# Altium footprint library Networks SMD.PcbLib: 25 footprints (part 2 of 2)
Each footprint in its own frame and in the unit in brackets; x right, y up, seen from the top. Pads: shape width x height; smd on the part's side, far side on the other; paste and mask are expansions set on the pad; w line width, h text height; cw(c..) or ccw(c..) is an arc to the next point about the centre after c.
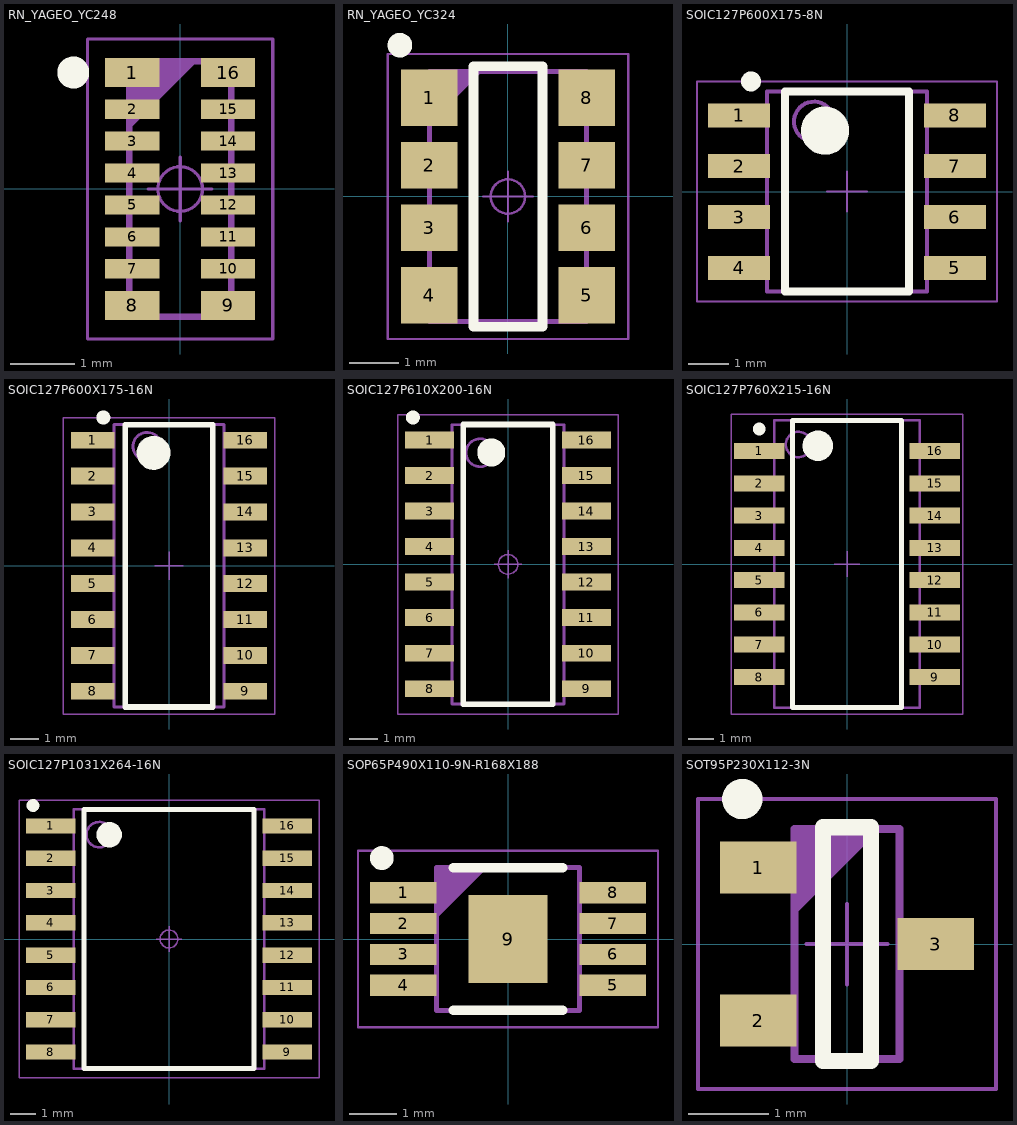
[diagram p1: the footprints below, top view; thin cyan lines are the x and y axes]

## RN_YAGEO_YC248 [mm] "Resistor, Chip Array, 0.50mm pitch; 16 pin, 1.60mm W X 4mm L X 0.55mm H, YC248 Serie"
height 0.55
pads (16):
  rect 0.85x0.45 smd: 1(-0.75,1.825) 8(-0.75,-1.825) 9(0.75,-1.825) 16(0.75,1.825)
  rect 0.85x0.3 smd: 2(-0.75,1.25) 3(-0.75,0.75) 4(-0.75,0.25) 5(-0.75,-0.25) 6(-0.75,-0.75) 7(-0.75,-1.25) 10(0.75,-1.25) 11(0.75,-0.75) 12(0.75,-0.25) 13(0.75,0.25) 14(0.75,0.75) 15(0.75,1.25)
Top Overlay:
  circle w0.25: c-1.675,1.825 r0.125
Mechanical 14:
  lines w0.1: -0.8,-2 -0.8,2 0.8,2 0.8,-2 -0.8,-2 ; -0.8,1 0.2,2 -0.8,1 ; -0.8,1.1 0.1,2 -0.8,1.1 ; -0.8,1.2 0,2 -0.8,1.2 ; -0.8,1.3 -0.1,2 -0.8,1.3 ; -0.8,1.4 -0.2,2 -0.8,1.4 ; -0.8,1.5 -0.3,2 -0.8,1.5 ; -0.8,1.6 -0.4,2 -0.8,1.6 ; -0.8,1.7 -0.5,2 -0.8,1.7 ; -0.8,1.8 -0.6,2 -0.8,1.8 ; -0.8,1.9 -0.7,2 -0.8,1.9
Mechanical 15:
  circle w0.05: c0,0 r0.35
  lines w0.05: -0.5,0 0.5,0 ; 0,-0.5 0,0.5 ; -1.45,-2.35 -1.45,2.35 1.45,2.35 1.45,-2.35 -1.45,-2.35
3D body "RN_YAGEO_YC248.stp": height 0.45, standoff 0, extent -0.8,-2 0.8,2

## RN_YAGEO_YC324 [mm] "Resistor, Chip Array, Convex S Version, 1.27mm Pitch; 8 Pin, 3.20mm W X 5.08mm L X 0.70mm H, Type YC324, IPC Medium Density"
height 0.7
pads (8):
  rect 1.15x1.15 smd: 1(-1.6,2.005) 4(-1.6,-2.005) 5(1.6,-2.005) 8(1.6,2.005)
  rect 1.15x0.95 smd: 2(-1.6,0.635) 3(-1.6,-0.635) 6(1.6,-0.635) 7(1.6,0.635)
Top Overlay:
  circle w0.25: c-2.2,3.08 r0.125
  lines w0.2: -0.7,-2.65 0.7,-2.65 0.7,2.65 -0.7,2.65 -0.7,-2.65
Mechanical 14:
  lines w0.1: -1.6,-2.54 1.6,-2.54 1.6,2.54 -1.6,2.54 -1.6,-2.54 ; -1.6,1.54 -0.6,2.54 -1.6,1.54 ; -1.6,1.64 -0.7,2.54 -1.6,1.64 ; -1.6,1.74 -0.8,2.54 -1.6,1.74 ; -1.6,1.84 -0.9,2.54 -1.6,1.84 ; -1.6,1.94 -1,2.54 -1.6,1.94 ; -1.6,2.04 -1.1,2.54 -1.6,2.04 ; -1.6,2.14 -1.2,2.54 -1.6,2.14 ; -1.6,2.24 -1.3,2.54 -1.6,2.24 ; -1.6,2.34 -1.4,2.54 -1.6,2.34 ; -1.6,2.44 -1.5,2.54 -1.6,2.44
Mechanical 15:
  circle w0.05: c0,0 r0.35
  lines w0.05: -0.5,0 0.5,0 ; 0,-0.5 0,0.5 ; -2.45,-2.9 2.45,-2.9 2.45,2.9 -2.45,2.9 -2.45,-2.9
3D body "RN_YAGEO_YC324.stp": height 0.7, standoff 0, extent -1.6,-2.54 1.6,2.54

## SOIC127P600X175-8N [mm] "SOIC 8, Pitch 1.27mm - Body 4x5mm, IPC Medium Density"
height 1.75
pads (8):
  rect 1.55x0.6 smd: 1(-2.7,1.905) 2(-2.7,0.635) 3(-2.7,-0.635) 4(-2.7,-1.905) 5(2.7,-1.905) 6(2.7,-0.635) 7(2.7,0.635) 8(2.7,1.905)
Top Overlay:
  circle w0.25: c-2.4,2.755 r0.125
  circle w0.6: c-0.55,1.525 r0.3
  lines w0.2: -1.55,-2.5 -1.55,2.5 1.55,2.5 1.55,-2.5 -1.55,-2.5
Mechanical 14:
  circle w0.1: c-0.825,1.75 r0.5
  lines w0.1: -2,-2.5 -2,2.5 2,2.5 2,-2.5 -2,-2.5
Mechanical 15:
  lines w0.05: -0.5,0 0.5,0 ; 0,-0.5 0,0.5 ; -3.75,-2.75 -3.75,2.75 3.75,2.75 3.75,-2.75 -3.75,-2.75
3D body "SOIC127P600X175-8N.stp": height 1.75, standoff 0, extent -3.1,-2.5 3.1,2.5

## SOIC127P600X175-16N [mm] "SOIC 16, Pitch 1.27mm - Body 4x10mm, IPC Medium Density"
height 1.75
pads (16):
  rect 1.55x0.6 smd: 1(-2.7,4.445) 2(-2.7,3.175) 3(-2.7,1.905) 4(-2.7,0.635) 5(-2.7,-0.635) 6(-2.7,-1.905) 7(-2.7,-3.175) 8(-2.7,-4.445) 9(2.7,-4.445) 10(2.7,-3.175) 11(2.7,-1.905) 12(2.7,-0.635) 13(2.7,0.635) 14(2.7,1.905) 15(2.7,3.175) 16(2.7,4.445)
Top Overlay:
  circle w0.6: c-0.55,4 r0.3
  circle w0.25: c-2.325,5.25 r0.125
  lines w0.2: -1.55,-5 1.55,-5 1.55,5 -1.55,5 -1.55,-5
Mechanical 14:
  circle w0.1: c-0.775,4.225 r0.5
  lines w0.1: -1.95,-5 -1.95,5 1.95,5 1.95,-5 -1.95,-5
Mechanical 15:
  lines w0.05: -0.5,0 0.5,0 ; 0,-0.5 0,0.5 ; -3.75,-5.25 3.75,-5.25 3.75,5.25 -3.75,5.25 -3.75,-5.25
3D body "SOIC127P600X175-16N.stp": height 1.75, standoff 0, extent -3.1,-5 3.1,5

## SOIC127P610X200-16N [mm] "SOIC 16, Pitch 1.27mm - Body 4x10mm, IPC Medium Density"
height 2
pads (16):
  rect 1.75x0.6 smd: 1(-2.8,4.445) 2(-2.8,3.175) 3(-2.8,1.905) 4(-2.8,0.635) 5(-2.8,-0.635) 6(-2.8,-1.905) 7(-2.8,-3.175) 8(-2.8,-4.445) 9(2.8,-4.445) 10(2.8,-3.175) 11(2.8,-1.905) 12(2.8,-0.635) 13(2.8,0.635) 14(2.8,1.905) 15(2.8,3.175) 16(2.8,4.445)
Top Overlay:
  circle w0.25: c-3.4,5.25 r0.125
  circle w0.5: c-0.6,4 r0.25
  lines w0.2: -1.6,-5 -1.6,5 1.6,5 1.6,-5 -1.6,-5
Mechanical 14:
  circle w0.1: c-1,3.99 r0.5
  lines w0.1: -2,-4.99 -2,4.99 2,4.99 2,-4.99 -2,-4.99
Mechanical 15:
  circle w0.05: c0,0 r0.35
  lines w0.05: -0.5,0 0.5,0 ; 0,-0.5 0,0.5 ; -3.95,-5.35 -3.95,5.35 3.95,5.35 3.95,-5.35 -3.95,-5.35
3D body "SOIC127P610X200-16N.stp": height 2, standoff 0, extent -3.1,-5.08 3.1,5.08

## SOIC127P760X215-16N [mm] "SOIC, 16-Leads, Body 11.3x5.7mm (max), Pitch 1.27mm, IPC Medium Density"
height 2.15
pads (16):
  rect 2x0.63 smd: 1(-3.45,4.445) 2(-3.45,3.175) 3(-3.45,1.905) 4(-3.45,0.635) 5(-3.45,-0.635) 6(-3.45,-1.905) 7(-3.45,-3.175) 8(-3.45,-4.445) 9(3.45,-4.445) 10(3.45,-3.175) 11(3.45,-1.905) 12(3.45,-0.635) 13(3.45,0.635) 14(3.45,1.905) 15(3.45,3.175) 16(3.45,4.445)
Top Overlay:
  circle w0.6: c-1.15,4.65 r0.3
  circle w0.25: c-3.45,5.31 r0.125
  lines w0.2: -2.15,-5.65 2.15,-5.65 2.15,5.65 -2.15,5.65 -2.15,-5.65
Mechanical 14:
  circle w0.1: c-1.905,4.7 r0.5
  lines w0.1: -2.855,-5.65 2.855,-5.65 2.855,5.65 -2.855,5.65 -2.855,-5.65
Mechanical 15:
  lines w0.05: -0.5,0 0.5,0 ; 0,-0.5 0,0.5 ; -4.55,-5.9 4.55,-5.9 4.55,5.9 -4.55,5.9 -4.55,-5.9
3D body "SOIC127P760X215-16N.stp": height 2.15, standoff -0.02, extent -3.81,-5.65 3.81,5.65

## SOIC127P1031X264-16N [mm] "SOIC, 1.27mm Pitch;16 Pin, 7.49mm W X 10.21mm L X 2.64mm H body, IPC Medium Density"
height 2.64
pads (16):
  rect 1.95x0.6 smd: 1(-4.65,4.445) 2(-4.65,3.175) 3(-4.65,1.905) 4(-4.65,0.635) 5(-4.65,-0.635) 6(-4.65,-1.905) 7(-4.65,-3.175) 8(-4.65,-4.445) 9(4.65,-4.445) 10(4.65,-3.175) 11(4.65,-1.905) 12(4.65,-0.635) 13(4.65,0.635) 14(4.65,1.905) 15(4.65,3.175) 16(4.65,4.445)
Top Overlay:
  circle w0.5: c-2.35,4.1 r0.25
  circle w0.25: c-5.35,5.25 r0.125
  lines w0.2: -3.35,-5.1 3.35,-5.1 3.35,5.1 -3.35,5.1 -3.35,-5.1
Mechanical 14:
  circle w0.1: c-2.745,4.105 r0.5
  lines w0.1: -3.745,-5.105 3.745,-5.105 3.745,5.105 -3.745,5.105 -3.745,-5.105
Mechanical 15:
  circle w0.05: c0,0 r0.35
  lines w0.05: -0.5,0 0.5,0 ; 0,-0.5 0,0.5 ; -5.9,-5.45 5.9,-5.45 5.9,5.45 -5.9,5.45 -5.9,-5.45
3D body "SOIC127P1031X264-16N.stp": height 2.65, standoff 0, extent -5.215,-5.151 5.215,5.151

## SOP65P490X110-9N-R168X188 [mm] "SOP, 0.65mm Pitch; 8 Pin, 3.00mm W X 3.00mm L X 1.10mm H body, (w/Thermal Tab 1.68X 1.88mm), IPC Medium Density"
height 1.1
pads (9):
  rect 1.4x0.45 smd: 1(-2.2,0.975) 2(-2.2,0.325) 3(-2.2,-0.325) 4(-2.2,-0.975) 5(2.2,-0.975) 6(2.2,-0.325) 7(2.2,0.325) 8(2.2,0.975)
  rect 1.65x1.85 smd: 9(0,0)
Top Overlay:
  circle w0.25: c-2.65,1.7 r0.125
  lines w0.2: -1.15,-1.5 1.15,-1.5 ; -1.15,1.5 1.15,1.5
Mechanical 14:
  lines w0.1: -1.5,0.5 -0.5,1.5 ; -1.5,0.6 -0.6,1.5 ; -1.5,0.7 -0.7,1.5 ; -1.5,0.8 -0.8,1.5 ; -1.5,0.9 -0.9,1.5 ; -1.5,1 -1,1.5 ; -1.5,1.1 -1.1,1.5 ; -1.5,1.2 -1.2,1.5 ; -1.5,1.3 -1.3,1.5 ; -1.5,1.4 -1.4,1.5 ; -1.5,-1.5 -1.5,1.5 1.5,1.5 1.5,-1.5 -1.5,-1.5
Mechanical 15:
  circle w0.05: c0,0 r0.35
  lines w0.05: -0.5,0 0.5,0 ; 0,-0.5 0,0.5 ; -3.15,-1.85 3.15,-1.85 3.15,1.85 -3.15,1.85 -3.15,-1.85
3D body "SOP65P490X110-9N-R168X188.stp": height 1.1, standoff 0, extent -2.45,-1.55 2.45,1.55

## SOT95P230X112-3N [mm] "SOT23 3-Leads, Pitch 0.95mm - Body 1.3x2.86mm, IPC Medium Density"
height 1.1
pads (3):
  rect 0.95x0.65 smd: 1(-1.1,0.95) 2(-1.1,-0.95) 3(1.1,0)
Top Overlay:
  circle w0.25: c-1.3,1.8 r0.125
  lines w0.2: -0.3,-1.45 0.3,-1.45 0.3,1.45 -0.3,1.45 -0.3,-1.45
Mechanical 14:
  lines w0.1: -0.65,0.43 0.35,1.43 ; -0.65,0.53 0.25,1.43 ; -0.65,0.63 0.15,1.43 ; -0.65,0.73 0.05,1.43 ; -0.65,0.83 -0.05,1.43 ; -0.65,0.93 -0.15,1.43 ; -0.65,1.03 -0.25,1.43 ; -0.65,1.13 -0.35,1.43 ; -0.65,1.23 -0.45,1.43 ; -0.65,1.33 -0.55,1.43 ; -0.65,-1.43 -0.65,1.43 0.65,1.43 0.65,-1.43 -0.65,-1.43
Mechanical 15:
  lines w0.05: -0.5,0 0.5,0 ; 0,-0.5 0,0.5 ; -1.85,-1.8 -1.85,1.8 1.85,1.8 1.85,-1.8 -1.85,-1.8
3D body "SOT95P240X110-3N.stp": height 1.1, standoff 0, extent -1.25,-1.5 1.25,1.5